# Altium schematic symbol library PM-IRM-10-5.Schlib: 1 symbol
Pins are listed as number, name and electrical type; pins without a type are passive.

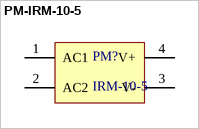
[diagram p0: symbol PM-IRM-10-5]

## PM-IRM-10-5
designator PM?, comment IRM-10-5
Switching Power Supplies 5V 2A 10W 85-264Vin Encap PS
pins: 1 AC1, 2 AC2, 3 V-, 4 V+